# Altium integrated library NSC Switcher.IntLib: 2027 symbols (part 23 of 54)
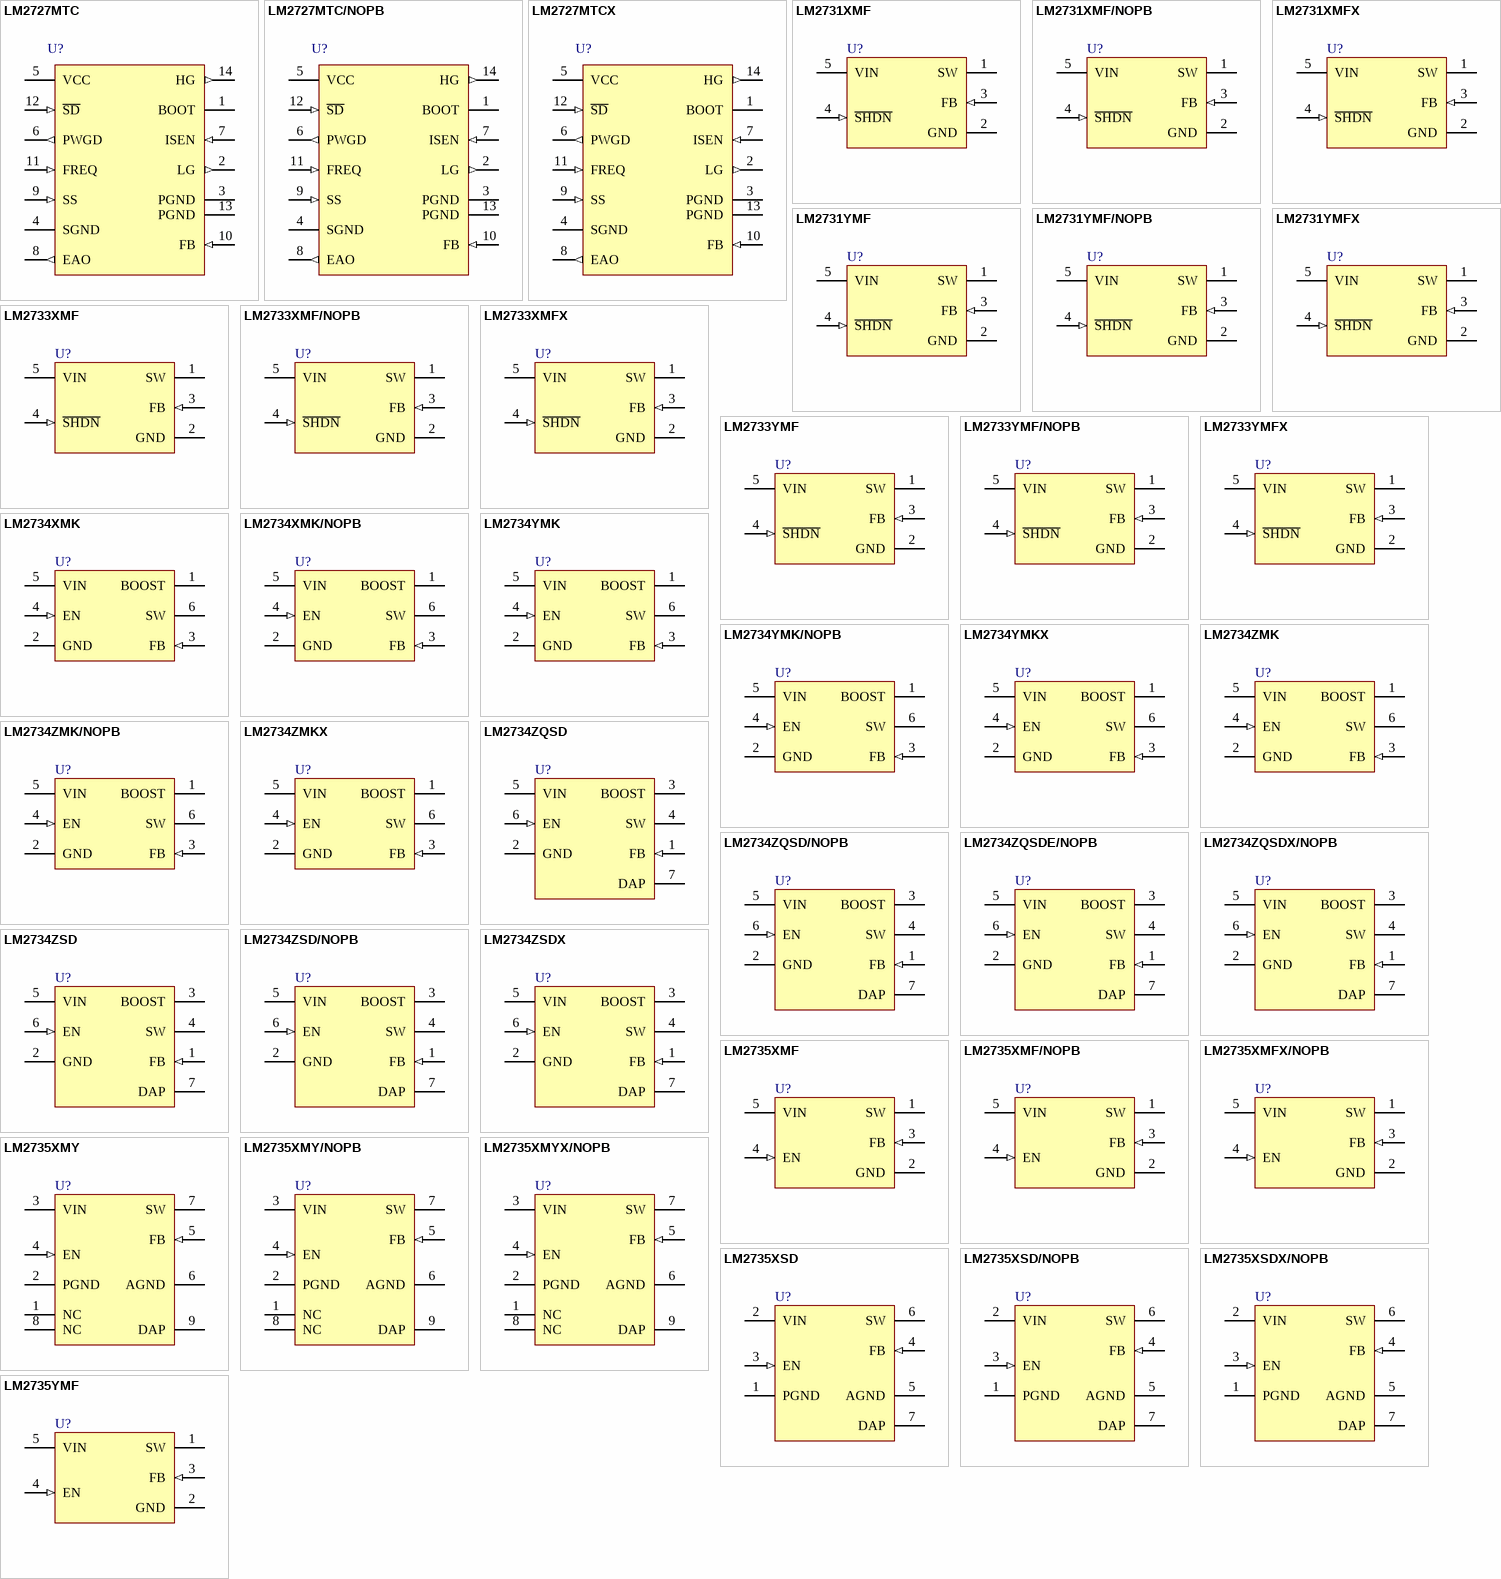
[diagram p85: symbols LM2727MTC to LM2735YMF]

## LM2731XMF
designator U?
0.6/1.6 MHz Boost Converters With 22V Internal FET Switch, 5-pin SOT-23; PartNumber: LM2731XMF; Manufacturer: National Semiconductor; PackageTopMarking: S51A*XTT; PowerWise: N; CompType: Switcher; Published: 4-Dec-2008; DatasheetVersion: Jul-2007; PackageVersion: revD, Aug-2008; PackageReference: MF05A; Publisher: Altium Limited; PackageDescription: Molded SOT-23, .115 x .063 x .040 in Body, 5 Lead, .0375 in Pitch; Supplier 1: Farnell; Supplier Part Number 1: 8181640; Supplier 2: Farnell; Supplier Part Number 2: 8181640RL; RoHS: N; PinCount: 5; ComponentLink1Description: LM2731 Datasheet; ComponentLink1URL: http://www.national.com/ds/LM/LM2731.pdf; ComponentLink2Description: LM2731 Web Page; ComponentLink2URL: http://www.national.com/pf/LM/LM2731.html; ComponentLink3Description: MF05A Package Page; ComponentLink3URL: http://www.national.com/packaging/folders/mf05a.html
footprint MF05A_N (SOT23, 5-Leads, Body 2.9x1.6mm, Pitch 0.95mm, Lead Span 2.8mm, IPC Medium Density)
footprint MF05A_L (SOT23, 5-Leads, Body 2.9x1.6mm, Pitch 0.95mm, Lead Span 2.8mm, IPC High Density)
footprint MF05A_M (SOT23, 5-Leads, Body 2.9x1.6mm, Pitch 0.95mm, Lead Span 2.8mm, IPC Low Density)
pins: 1 SW (power), 2 GND (power), 3 FB (in), 4 ~{SHDN} (in), 5 VIN (power)

## LM2731XMF/NOPB
designator U?
0.6/1.6 MHz Boost Converters With 22V Internal FET Switch in 5-pin SOT-23, Pb-Free; PartNumber: LM2731XMF/NOPB; Manufacturer: National Semiconductor; PackageTopMarking: S51A*XTT; PowerWise: N; CompType: Switcher; Published: 1-Mar-2010; DatasheetVersion: Jul-2007; PackageVersion: revD, Aug-2008; PackageReference: MF05A; Publisher: Altium Limited; PackageDescription: Molded SOT-23, .115 x .063 x .040 in Body, 5 Lead, .0375 in Pitch; Supplier 1: Digi-Key; Supplier Part Number 1: LM2731XMFTR-ND; Supplier 2: Digi-Key; Supplier Part Number 2: LM2731XMFCT-ND; Supplier 3: Digi-Key; Supplier Part Number 3: LM2731XMFDKR-ND; Supplier 4: Farnell; Supplier Part Number 4: 1675270; RoHS: Y; PinCount: 5; ComponentLink1Description: LM2731 Datasheet; ComponentLink1URL: http://www.national.com/ds/LM/LM2731.pdf; ComponentLink2Description: LM2731 Web Page; ComponentLink2URL: http://www.national.com/pf/LM/LM2731.html; ComponentLink3Description: MF05A Package Page; ComponentLink3URL: http://www.national.com/packaging/folders/mf05a.html
footprint MF05A_N (SOT23, 5-Leads, Body 2.9x1.6mm, Pitch 0.95mm, Lead Span 2.8mm, IPC Medium Density)
footprint MF05A_L (SOT23, 5-Leads, Body 2.9x1.6mm, Pitch 0.95mm, Lead Span 2.8mm, IPC High Density)
footprint MF05A_M (SOT23, 5-Leads, Body 2.9x1.6mm, Pitch 0.95mm, Lead Span 2.8mm, IPC Low Density)
pins: 1 SW (power), 2 GND (power), 3 FB (in), 4 ~{SHDN} (in), 5 VIN (power)

## LM2731XMFX
designator U?
0.6/1.6 MHz Boost Converters With 22V Internal FET Switch in 5-pin SOT-23; PartNumber: LM2731XMFX; Manufacturer: National Semiconductor; PackageTopMarking: S51A*XTT; PowerWise: N; CompType: Switcher; Published: 1-Mar-2010; DatasheetVersion: Jul-2007; PackageVersion: revD, Aug-2008; PackageReference: MF05A; Publisher: Altium Limited; PackageDescription: Molded SOT-23, .115 x .063 x .040 in Body, 5 Lead, .0375 in Pitch; RoHS: N; PinCount: 5; ComponentLink1Description: LM2731 Datasheet; ComponentLink1URL: http://www.national.com/ds/LM/LM2731.pdf; ComponentLink2Description: LM2731 Web Page; ComponentLink2URL: http://www.national.com/pf/LM/LM2731.html; ComponentLink3Description: MF05A Package Page; ComponentLink3URL: http://www.national.com/packaging/folders/mf05a.html
footprint MF05A_N (SOT23, 5-Leads, Body 2.9x1.6mm, Pitch 0.95mm, Lead Span 2.8mm, IPC Medium Density)
footprint MF05A_L (SOT23, 5-Leads, Body 2.9x1.6mm, Pitch 0.95mm, Lead Span 2.8mm, IPC High Density)
footprint MF05A_M (SOT23, 5-Leads, Body 2.9x1.6mm, Pitch 0.95mm, Lead Span 2.8mm, IPC Low Density)
pins: 1 SW (power), 2 GND (power), 3 FB (in), 4 ~{SHDN} (in), 5 VIN (power)

## LM2731YMF
designator U?
0.6/1.6 MHz Boost Converters With 22V Internal FET Switch, 5-pin SOT-23; PartNumber: LM2731YMF; Manufacturer: National Semiconductor; PackageTopMarking: S51B*XTT; PowerWise: N; CompType: Switcher; Published: 4-Dec-2008; DatasheetVersion: Jul-2007; PackageVersion: revD, Aug-2008; PackageReference: MF05A; Publisher: Altium Limited; PackageDescription: Molded SOT-23, .115 x .063 x .040 in Body, 5 Lead, .0375 in Pitch; Supplier 1: Farnell; Supplier Part Number 1: 8181659; RoHS: N; PinCount: 5; ComponentLink1Description: LM2731 Datasheet; ComponentLink1URL: http://www.national.com/ds/LM/LM2731.pdf; ComponentLink2Description: LM2731 Web Page; ComponentLink2URL: http://www.national.com/pf/LM/LM2731.html; ComponentLink3Description: MF05A Package Page; ComponentLink3URL: http://www.national.com/packaging/folders/mf05a.html
footprint MF05A_N (SOT23, 5-Leads, Body 2.9x1.6mm, Pitch 0.95mm, Lead Span 2.8mm, IPC Medium Density)
footprint MF05A_L (SOT23, 5-Leads, Body 2.9x1.6mm, Pitch 0.95mm, Lead Span 2.8mm, IPC High Density)
footprint MF05A_M (SOT23, 5-Leads, Body 2.9x1.6mm, Pitch 0.95mm, Lead Span 2.8mm, IPC Low Density)
pins: 1 SW (power), 2 GND (power), 3 FB (in), 4 ~{SHDN} (in), 5 VIN (power)

## LM2731YMF/NOPB
designator U?
0.6/1.6 MHz Boost Converters With 22V Internal FET Switch in 5-pin SOT-23, Pb-Free; PartNumber: LM2731YMF/NOPB; Manufacturer: National Semiconductor; PackageTopMarking: S51B*XTT; PowerWise: N; CompType: Switcher; Published: 1-Mar-2010; DatasheetVersion: Jul-2007; PackageVersion: revD, Aug-2008; PackageReference: MF05A; Publisher: Altium Limited; PackageDescription: Molded SOT-23, .115 x .063 x .040 in Body, 5 Lead, .0375 in Pitch; Supplier 1: Digi-Key; Supplier Part Number 1: LM2731YMFTR-ND; Supplier 2: Digi-Key; Supplier Part Number 2: LM2731YMFCT-ND; Supplier 3: Digi-Key; Supplier Part Number 3: LM2731YMFDKR-ND; Supplier 4: Farnell; Supplier Part Number 4: 1496113; RoHS: Y; PinCount: 5; ComponentLink1Description: LM2731 Datasheet; ComponentLink1URL: http://www.national.com/ds/LM/LM2731.pdf; ComponentLink2Description: LM2731 Web Page; ComponentLink2URL: http://www.national.com/pf/LM/LM2731.html; ComponentLink3Description: MF05A Package Page; ComponentLink3URL: http://www.national.com/packaging/folders/mf05a.html
footprint MF05A_N (SOT23, 5-Leads, Body 2.9x1.6mm, Pitch 0.95mm, Lead Span 2.8mm, IPC Medium Density)
footprint MF05A_L (SOT23, 5-Leads, Body 2.9x1.6mm, Pitch 0.95mm, Lead Span 2.8mm, IPC High Density)
footprint MF05A_M (SOT23, 5-Leads, Body 2.9x1.6mm, Pitch 0.95mm, Lead Span 2.8mm, IPC Low Density)
pins: 1 SW (power), 2 GND (power), 3 FB (in), 4 ~{SHDN} (in), 5 VIN (power)

## LM2731YMFX
designator U?
0.6/1.6 MHz Boost Converters With 22V Internal FET Switch in 5-pin SOT-23; PartNumber: LM2731YMFX; Manufacturer: National Semiconductor; PackageTopMarking: S51B*XTT; PowerWise: N; CompType: Switcher; Published: 1-Mar-2010; DatasheetVersion: Jul-2007; PackageVersion: revD, Aug-2008; PackageReference: MF05A; Publisher: Altium Limited; PackageDescription: Molded SOT-23, .115 x .063 x .040 in Body, 5 Lead, .0375 in Pitch; RoHS: N; PinCount: 5; ComponentLink1Description: LM2731 Datasheet; ComponentLink1URL: http://www.national.com/ds/LM/LM2731.pdf; ComponentLink2Description: LM2731 Web Page; ComponentLink2URL: http://www.national.com/pf/LM/LM2731.html; ComponentLink3Description: MF05A Package Page; ComponentLink3URL: http://www.national.com/packaging/folders/mf05a.html
footprint MF05A_N (SOT23, 5-Leads, Body 2.9x1.6mm, Pitch 0.95mm, Lead Span 2.8mm, IPC Medium Density)
footprint MF05A_L (SOT23, 5-Leads, Body 2.9x1.6mm, Pitch 0.95mm, Lead Span 2.8mm, IPC High Density)
footprint MF05A_M (SOT23, 5-Leads, Body 2.9x1.6mm, Pitch 0.95mm, Lead Span 2.8mm, IPC Low Density)
pins: 1 SW (power), 2 GND (power), 3 FB (in), 4 ~{SHDN} (in), 5 VIN (power)

## LM2733XMF
designator U?
0.6/1.6 MHz Boost Converters With 40V Internal FET Switch, 5-pin SOT-23; PartNumber: LM2733XMF; Manufacturer: National Semiconductor; PackageTopMarking: S52A*XTT; PowerWise: N; CompType: Switcher; Published: 4-Dec-2008; DatasheetVersion: Jul-2007; PackageVersion: revD, Aug-2008; PackageReference: MF05A; Publisher: Altium Limited; PackageDescription: Molded SOT-23, .115 x .063 x .040 in Body, 5 Lead, .0375 in Pitch; Supplier 1: Farnell; Supplier Part Number 1: 8181667; Supplier 2: Farnell; Supplier Part Number 2: 8181667RL; RoHS: N; PinCount: 5; ComponentLink1Description: LM2733 Datasheet; ComponentLink1URL: http://www.national.com/ds/LM/LM2733.pdf; ComponentLink2Description: LM2733 Web Page; ComponentLink2URL: http://www.national.com/pf/LM/LM2733.html; ComponentLink3Description: MF05A Package Page; ComponentLink3URL: http://www.national.com/packaging/folders/mf05a.html
footprint MF05A_N (SOT23, 5-Leads, Body 2.9x1.6mm, Pitch 0.95mm, Lead Span 2.8mm, IPC Medium Density)
footprint MF05A_L (SOT23, 5-Leads, Body 2.9x1.6mm, Pitch 0.95mm, Lead Span 2.8mm, IPC High Density)
footprint MF05A_M (SOT23, 5-Leads, Body 2.9x1.6mm, Pitch 0.95mm, Lead Span 2.8mm, IPC Low Density)
pins: 1 SW (power), 2 GND (power), 3 FB (in), 4 ~{SHDN} (in), 5 VIN (power)

## LM2733XMF/NOPB
designator U?
0.6/1.6 MHz Boost Converters With 40V Internal FET Switch in 5-pin SOT-23, Pb-Free; PartNumber: LM2733XMF/NOPB; Manufacturer: National Semiconductor; PackageTopMarking: S52A*XTT; PowerWise: N; CompType: Switcher; Published: 1-Mar-2010; DatasheetVersion: Jul-2007; PackageVersion: revD, Aug-2008; PackageReference: MF05A; Publisher: Altium Limited; PackageDescription: Molded SOT-23, .115 x .063 x .040 in Body, 5 Lead, .0375 in Pitch; Supplier 1: Digi-Key; Supplier Part Number 1: LM2733XMFTR-ND; Supplier 2: Digi-Key; Supplier Part Number 2: LM2733XMFCT-ND; Supplier 3: Digi-Key; Supplier Part Number 3: LM2733XMFDKR-ND; Supplier 4: Farnell; Supplier Part Number 4: 1496114; RoHS: Y; PinCount: 5; ComponentLink1Description: LM2733 Datasheet; ComponentLink1URL: http://www.national.com/ds/LM/LM2733.pdf; ComponentLink2Description: LM2733 Web Page; ComponentLink2URL: http://www.national.com/pf/LM/LM2733.html; ComponentLink3Description: MF05A Package Page; ComponentLink3URL: http://www.national.com/packaging/folders/mf05a.html
footprint MF05A_N (SOT23, 5-Leads, Body 2.9x1.6mm, Pitch 0.95mm, Lead Span 2.8mm, IPC Medium Density)
footprint MF05A_L (SOT23, 5-Leads, Body 2.9x1.6mm, Pitch 0.95mm, Lead Span 2.8mm, IPC High Density)
footprint MF05A_M (SOT23, 5-Leads, Body 2.9x1.6mm, Pitch 0.95mm, Lead Span 2.8mm, IPC Low Density)
pins: 1 SW (power), 2 GND (power), 3 FB (in), 4 ~{SHDN} (in), 5 VIN (power)

## LM2733XMFX
designator U?
0.6/1.6 MHz Boost Converters With 40V Internal FET Switch in 5-pin SOT-23; PartNumber: LM2733XMFX; Manufacturer: National Semiconductor; PackageTopMarking: S52A*XTT; PowerWise: N; CompType: Switcher; Published: 1-Mar-2010; DatasheetVersion: Jul-2007; PackageVersion: revD, Aug-2008; PackageReference: MF05A; Publisher: Altium Limited; PackageDescription: Molded SOT-23, .115 x .063 x .040 in Body, 5 Lead, .0375 in Pitch; RoHS: N; PinCount: 5; ComponentLink1Description: LM2733 Datasheet; ComponentLink1URL: http://www.national.com/ds/LM/LM2733.pdf; ComponentLink2Description: LM2733 Web Page; ComponentLink2URL: http://www.national.com/pf/LM/LM2733.html; ComponentLink3Description: MF05A Package Page; ComponentLink3URL: http://www.national.com/packaging/folders/mf05a.html
footprint MF05A_N (SOT23, 5-Leads, Body 2.9x1.6mm, Pitch 0.95mm, Lead Span 2.8mm, IPC Medium Density)
footprint MF05A_L (SOT23, 5-Leads, Body 2.9x1.6mm, Pitch 0.95mm, Lead Span 2.8mm, IPC High Density)
footprint MF05A_M (SOT23, 5-Leads, Body 2.9x1.6mm, Pitch 0.95mm, Lead Span 2.8mm, IPC Low Density)
pins: 1 SW (power), 2 GND (power), 3 FB (in), 4 ~{SHDN} (in), 5 VIN (power)

## LM2733YMF
designator U?
0.6/1.6 MHz Boost Converters With 40V Internal FET Switch, 5-pin SOT-23; PartNumber: LM2733YMF; Manufacturer: National Semiconductor; PackageTopMarking: S52B*XTT; PowerWise: N; CompType: Switcher; Published: 4-Dec-2008; DatasheetVersion: Jul-2007; PackageVersion: revD, Aug-2008; PackageReference: MF05A; Publisher: Altium Limited; PackageDescription: Molded SOT-23, .115 x .063 x .040 in Body, 5 Lead, .0375 in Pitch; Supplier 1: Farnell; Supplier Part Number 1: 8181675RL; Supplier 2: Farnell; Supplier Part Number 2: 8181675; RoHS: N; PinCount: 5; ComponentLink1Description: LM2733 Datasheet; ComponentLink1URL: http://www.national.com/ds/LM/LM2733.pdf; ComponentLink2Description: LM2733 Web Page; ComponentLink2URL: http://www.national.com/pf/LM/LM2733.html; ComponentLink3Description: MF05A Package Page; ComponentLink3URL: http://www.national.com/packaging/folders/mf05a.html
footprint MF05A_N (SOT23, 5-Leads, Body 2.9x1.6mm, Pitch 0.95mm, Lead Span 2.8mm, IPC Medium Density)
footprint MF05A_L (SOT23, 5-Leads, Body 2.9x1.6mm, Pitch 0.95mm, Lead Span 2.8mm, IPC High Density)
footprint MF05A_M (SOT23, 5-Leads, Body 2.9x1.6mm, Pitch 0.95mm, Lead Span 2.8mm, IPC Low Density)
pins: 1 SW (power), 2 GND (power), 3 FB (in), 4 ~{SHDN} (in), 5 VIN (power)

## LM2733YMF/NOPB
designator U?
0.6/1.6 MHz Boost Converters With 40V Internal FET Switch in 5-pin SOT-23, Pb-Free; PartNumber: LM2733YMF/NOPB; Manufacturer: National Semiconductor; PackageTopMarking: S52B*XTT; PowerWise: N; CompType: Switcher; Published: 1-Mar-2010; DatasheetVersion: Jul-2007; PackageVersion: revD, Aug-2008; PackageReference: MF05A; Publisher: Altium Limited; PackageDescription: Molded SOT-23, .115 x .063 x .040 in Body, 5 Lead, .0375 in Pitch; Supplier 1: Digi-Key; Supplier Part Number 1: LM2733YMFTR-ND; Supplier 2: Digi-Key; Supplier Part Number 2: LM2733YMFCT-ND; Supplier 3: Digi-Key; Supplier Part Number 3: LM2733YMFDKR-ND; Supplier 4: Farnell; Supplier Part Number 4: 1496115; RoHS: Y; PinCount: 5; ComponentLink1Description: LM2733 Datasheet; ComponentLink1URL: http://www.national.com/ds/LM/LM2733.pdf; ComponentLink2Description: LM2733 Web Page; ComponentLink2URL: http://www.national.com/pf/LM/LM2733.html; ComponentLink3Description: MF05A Package Page; ComponentLink3URL: http://www.national.com/packaging/folders/mf05a.html
footprint MF05A_N (SOT23, 5-Leads, Body 2.9x1.6mm, Pitch 0.95mm, Lead Span 2.8mm, IPC Medium Density)
footprint MF05A_L (SOT23, 5-Leads, Body 2.9x1.6mm, Pitch 0.95mm, Lead Span 2.8mm, IPC High Density)
footprint MF05A_M (SOT23, 5-Leads, Body 2.9x1.6mm, Pitch 0.95mm, Lead Span 2.8mm, IPC Low Density)
pins: 1 SW (power), 2 GND (power), 3 FB (in), 4 ~{SHDN} (in), 5 VIN (power)

## LM2733YMFX
designator U?
0.6/1.6 MHz Boost Converters With 40V Internal FET Switch in 5-pin SOT-23; PartNumber: LM2733YMFX; Manufacturer: National Semiconductor; PackageTopMarking: S52B*XTT; PowerWise: N; CompType: Switcher; Published: 1-Mar-2010; DatasheetVersion: Jul-2007; PackageVersion: revD, Aug-2008; PackageReference: MF05A; Publisher: Altium Limited; PackageDescription: Molded SOT-23, .115 x .063 x .040 in Body, 5 Lead, .0375 in Pitch; RoHS: N; PinCount: 5; ComponentLink1Description: LM2733 Datasheet; ComponentLink1URL: http://www.national.com/ds/LM/LM2733.pdf; ComponentLink2Description: LM2733 Web Page; ComponentLink2URL: http://www.national.com/pf/LM/LM2733.html; ComponentLink3Description: MF05A Package Page; ComponentLink3URL: http://www.national.com/packaging/folders/mf05a.html
footprint MF05A_N (SOT23, 5-Leads, Body 2.9x1.6mm, Pitch 0.95mm, Lead Span 2.8mm, IPC Medium Density)
footprint MF05A_L (SOT23, 5-Leads, Body 2.9x1.6mm, Pitch 0.95mm, Lead Span 2.8mm, IPC High Density)
footprint MF05A_M (SOT23, 5-Leads, Body 2.9x1.6mm, Pitch 0.95mm, Lead Span 2.8mm, IPC Low Density)
pins: 1 SW (power), 2 GND (power), 3 FB (in), 4 ~{SHDN} (in), 5 VIN (power)

## LM2734XMK
designator U?
1A Load Step-Down DC-DC Regulator, 6-pin Tiny SOT23; PartNumber: LM2734XMK; Manufacturer: National Semiconductor; PackageTopMarking: SFDB*XTT; PowerWise: N; CompType: Switcher; Published: 4-Dec-2008; DatasheetVersion: Apr-2009; PackageVersion: revE, Nov-2008; PackageReference: MK06A; Publisher: Altium Limited; PackageDescription: Molded TSOT, 2.97 x 1.65 x 0.87mm Body, 6 Lead, 0.95mm Pitch; RoHS: Y; PinCount: 6; Code_JEDEC: MO-193-AA; Code_IPC: SOT26A-6; ComponentLink1Description: LM2734 Datasheet; ComponentLink1URL: http://www.national.com/ds/LM/LM2734.pdf; ComponentLink2Description: LM2734 Web Page; ComponentLink2URL: http://www.national.com/pf/LM/LM2734.html; ComponentLink3Description: MK06A Package Page; ComponentLink3URL: http://www.national.com/packaging/folders/mk06a.html
footprint MK06A_N (SOT23, 6-Leads, Body 3.0x1.7mm, Pitch 0.95mm, Lead Span 2.9mm, IPC Medium Density)
footprint MK06A_L (SOT23, 6-Leads, Body 3.0x1.7mm, Pitch 0.95mm, Lead Span 2.9mm, IPC High Density)
footprint MK06A_M (SOT23, 6-Leads, Body 3.0x1.7mm, Pitch 0.95mm, Lead Span 2.9mm, IPC Low Density)
pins: 1 BOOST, 2 GND (power), 3 FB (in), 4 EN (in), 5 VIN (power), 6 SW (power)

## LM2734XMK/NOPB
designator U?
1A Load Step-Down DC-DC Regulator, 6-pin Tiny SOT23, Pb-Free; PartNumber: LM2734XMK/NOPB; Manufacturer: National Semiconductor; PackageTopMarking: SFDB*XTT; PowerWise: N; CompType: Switcher; Published: 1-Mar-2010; DatasheetVersion: Apr-2009; PackageVersion: revE, Nov-2008; PackageReference: MK06A; Publisher: Altium Limited; PackageDescription: Molded TSOT, 2.97 x 1.65 x 0.87mm Body, 6 Lead, 0.95mm Pitch; Supplier 1: Digi-Key; Supplier Part Number 1: LM2734XMKTR-ND; Supplier 2: Digi-Key; Supplier Part Number 2: LM2734XMKCT-ND; Supplier 3: Digi-Key; Supplier Part Number 3: LM2734XMKDKR-ND; Supplier 4: Farnell; Supplier Part Number 4: 1652388; RoHS: Y; PinCount: 6; Code_JEDEC: MO-193-AA; Code_IPC: SOT26A-6; ComponentLink1Description: LM2734 Datasheet; ComponentLink1URL: http://www.national.com/ds/LM/LM2734.pdf; ComponentLink2Description: LM2734 Web Page; ComponentLink2URL: http://www.national.com/pf/LM/LM2734.html; ComponentLink3Description: MK06A Package Page; ComponentLink3URL: http://www.national.com/packaging/folders/mk06a.html
footprint MK06A_N (SOT23, 6-Leads, Body 3.0x1.7mm, Pitch 0.95mm, Lead Span 2.9mm, IPC Medium Density)
footprint MK06A_L (SOT23, 6-Leads, Body 3.0x1.7mm, Pitch 0.95mm, Lead Span 2.9mm, IPC High Density)
footprint MK06A_M (SOT23, 6-Leads, Body 3.0x1.7mm, Pitch 0.95mm, Lead Span 2.9mm, IPC Low Density)
pins: 1 BOOST, 2 GND (power), 3 FB (in), 4 EN (in), 5 VIN (power), 6 SW (power)

## LM2734YMK
designator U?
1A Load Step-Down DC-DC Regulator, 6-pin Tiny SOT23; PartNumber: LM2734YMK; Manufacturer: National Semiconductor; PackageTopMarking: SFEB*XTT; PowerWise: N; CompType: Switcher; Published: 4-Dec-2008; DatasheetVersion: Apr-2009; PackageVersion: revE, Nov-2008; PackageReference: MK06A; Publisher: Altium Limited; PackageDescription: Molded TSOT, 2.97 x 1.65 x 0.87mm Body, 6 Lead, 0.95mm Pitch; Supplier 1: Farnell; Supplier Part Number 1: 1312553; RoHS: N; PinCount: 6; Code_JEDEC: MO-193-AA; Code_IPC: SOT26A-6; ComponentLink1Description: LM2734 Datasheet; ComponentLink1URL: http://www.national.com/ds/LM/LM2734.pdf; ComponentLink2Description: LM2734 Web Page; ComponentLink2URL: http://www.national.com/pf/LM/LM2734.html; ComponentLink3Description: MK06A Package Page; ComponentLink3URL: http://www.national.com/packaging/folders/mk06a.html
footprint MK06A_N (SOT23, 6-Leads, Body 3.0x1.7mm, Pitch 0.95mm, Lead Span 2.9mm, IPC Medium Density)
footprint MK06A_L (SOT23, 6-Leads, Body 3.0x1.7mm, Pitch 0.95mm, Lead Span 2.9mm, IPC High Density)
footprint MK06A_M (SOT23, 6-Leads, Body 3.0x1.7mm, Pitch 0.95mm, Lead Span 2.9mm, IPC Low Density)
pins: 1 BOOST, 2 GND (power), 3 FB (in), 4 EN (in), 5 VIN (power), 6 SW (power)

## LM2734YMK/NOPB
designator U?
1A Load Step-Down DC-DC Regulator, 6-pin Tiny SOT23, Pb-Free; PartNumber: LM2734YMK/NOPB; Manufacturer: National Semiconductor; PackageTopMarking: SFEB*XTT; PowerWise: N; CompType: Switcher; Published: 1-Mar-2010; DatasheetVersion: Apr-2009; PackageVersion: revE, Nov-2008; PackageReference: MK06A; Publisher: Altium Limited; PackageDescription: Molded TSOT, 2.97 x 1.65 x 0.87mm Body, 6 Lead, 0.95mm Pitch; Supplier 1: Digi-Key; Supplier Part Number 1: LM2734YMKTR-ND; Supplier 2: Digi-Key; Supplier Part Number 2: LM2734YMKCT-ND; Supplier 3: Digi-Key; Supplier Part Number 3: LM2734YMKDKR-ND; Supplier 4: Farnell; Supplier Part Number 4: 1496118; RoHS: Y; PinCount: 6; Code_JEDEC: MO-193-AA; Code_IPC: SOT26A-6; ComponentLink1Description: LM2734 Datasheet; ComponentLink1URL: http://www.national.com/ds/LM/LM2734.pdf; ComponentLink2Description: LM2734 Web Page; ComponentLink2URL: http://www.national.com/pf/LM/LM2734.html; ComponentLink3Description: MK06A Package Page; ComponentLink3URL: http://www.national.com/packaging/folders/mk06a.html
footprint MK06A_N (SOT23, 6-Leads, Body 3.0x1.7mm, Pitch 0.95mm, Lead Span 2.9mm, IPC Medium Density)
footprint MK06A_L (SOT23, 6-Leads, Body 3.0x1.7mm, Pitch 0.95mm, Lead Span 2.9mm, IPC High Density)
footprint MK06A_M (SOT23, 6-Leads, Body 3.0x1.7mm, Pitch 0.95mm, Lead Span 2.9mm, IPC Low Density)
pins: 1 BOOST, 2 GND (power), 3 FB (in), 4 EN (in), 5 VIN (power), 6 SW (power)

## LM2734YMKX
designator U?
1A Load Step-Down DC-DC Regulator, 6-pin Tiny SOT23; PartNumber: LM2734YMKX; Manufacturer: National Semiconductor; PackageTopMarking: SFEB*XTT; PowerWise: N; CompType: Switcher; Published: 1-Mar-2010; DatasheetVersion: Apr-2009; PackageVersion: revE, Nov-2008; PackageReference: MK06A; Publisher: Altium Limited; PackageDescription: Molded TSOT, 2.97 x 1.65 x 0.87mm Body, 6 Lead, 0.95mm Pitch; RoHS: N; PinCount: 6; Code_JEDEC: MO-193-AA; Code_IPC: SOT26A-6; ComponentLink1Description: LM2734 Datasheet; ComponentLink1URL: http://www.national.com/ds/LM/LM2734.pdf; ComponentLink2Description: LM2734 Web Page; ComponentLink2URL: http://www.national.com/pf/LM/LM2734.html; ComponentLink3Description: MK06A Package Page; ComponentLink3URL: http://www.national.com/packaging/folders/mk06a.html
footprint MK06A_N (SOT23, 6-Leads, Body 3.0x1.7mm, Pitch 0.95mm, Lead Span 2.9mm, IPC Medium Density)
footprint MK06A_L (SOT23, 6-Leads, Body 3.0x1.7mm, Pitch 0.95mm, Lead Span 2.9mm, IPC High Density)
footprint MK06A_M (SOT23, 6-Leads, Body 3.0x1.7mm, Pitch 0.95mm, Lead Span 2.9mm, IPC Low Density)
pins: 1 BOOST, 2 GND (power), 3 FB (in), 4 EN (in), 5 VIN (power), 6 SW (power)

## LM2734ZMK
designator U?
1A Load Step-Down DC-DC Regulator, 6-pin Tiny SOT23; PartNumber: LM2734ZMK; Manufacturer: National Semiconductor; PackageTopMarking: SFTB*XTT; PowerWise: N; CompType: Switcher; Published: 4-Dec-2008; DatasheetVersion: Jun-2008; PackageVersion: revE, Nov-2008; PackageReference: MK06A; Publisher: Altium Limited; PackageDescription: Molded TSOT, 2.97 x 1.65 x 0.87mm Body, 6 Lead, 0.95mm Pitch; RoHS: N; PinCount: 6; Code_JEDEC: MO-193-AA; Code_IPC: SOT26A-6; ComponentLink1Description: LM2734Z Datasheet; ComponentLink1URL: http://www.national.com/ds/LM/LM2734Z.pdf; ComponentLink2Description: LM2734Z Web Page; ComponentLink2URL: http://www.national.com/pf/LM/LM2734Z.html; ComponentLink3Description: MK06A Package Page; ComponentLink3URL: http://www.national.com/packaging/folders/mk06a.html
footprint MK06A_N (SOT23, 6-Leads, Body 3.0x1.7mm, Pitch 0.95mm, Lead Span 2.9mm, IPC Medium Density)
footprint MK06A_L (SOT23, 6-Leads, Body 3.0x1.7mm, Pitch 0.95mm, Lead Span 2.9mm, IPC High Density)
footprint MK06A_M (SOT23, 6-Leads, Body 3.0x1.7mm, Pitch 0.95mm, Lead Span 2.9mm, IPC Low Density)
pins: 1 BOOST, 2 GND (power), 3 FB (in), 4 EN (in), 5 VIN (power), 6 SW (power)

## LM2734ZMK/NOPB
designator U?
1A Load Step-Down DC-DC Regulator, 6-pin Tiny SOT23, Pb-Free; PartNumber: LM2734ZMK/NOPB; Manufacturer: National Semiconductor; PackageTopMarking: SFTB*XTT; PowerWise: N; CompType: Switcher; Published: 1-Mar-2010; DatasheetVersion: Jun-2008; PackageVersion: revE, Nov-2008; PackageReference: MK06A; Publisher: Altium Limited; PackageDescription: Molded TSOT, 2.97 x 1.65 x 0.87mm Body, 6 Lead, 0.95mm Pitch; Supplier 1: Digi-Key; Supplier Part Number 1: LM2734ZMKTR-ND; Supplier 2: Digi-Key; Supplier Part Number 2: LM2734ZMKCT-ND; Supplier 3: Digi-Key; Supplier Part Number 3: LM2734ZMKDKR-ND; Supplier 4: Farnell; Supplier Part Number 4: 1559416; RoHS: Y; PinCount: 6; Code_JEDEC: MO-193-AA; Code_IPC: SOT26A-6; ComponentLink1Description: LM2734Z Datasheet; ComponentLink1URL: http://www.national.com/ds/LM/LM2734Z.pdf; ComponentLink2Description: LM2734Z Web Page; ComponentLink2URL: http://www.national.com/pf/LM/LM2734Z.html; ComponentLink3Description: MK06A Package Page; ComponentLink3URL: http://www.national.com/packaging/folders/mk06a.html
footprint MK06A_N (SOT23, 6-Leads, Body 3.0x1.7mm, Pitch 0.95mm, Lead Span 2.9mm, IPC Medium Density)
footprint MK06A_L (SOT23, 6-Leads, Body 3.0x1.7mm, Pitch 0.95mm, Lead Span 2.9mm, IPC High Density)
footprint MK06A_M (SOT23, 6-Leads, Body 3.0x1.7mm, Pitch 0.95mm, Lead Span 2.9mm, IPC Low Density)
pins: 1 BOOST, 2 GND (power), 3 FB (in), 4 EN (in), 5 VIN (power), 6 SW (power)

## LM2734ZMKX
designator U?
1A Load Step-Down DC-DC Regulator, 6-pin Tiny SOT23; PartNumber: LM2734ZMKX; Manufacturer: National Semiconductor; PackageTopMarking: SFTB*XTT; PowerWise: N; CompType: Switcher; Published: 1-Mar-2010; DatasheetVersion: Jun-2008; PackageVersion: revE, Nov-2008; PackageReference: MK06A; Publisher: Altium Limited; PackageDescription: Molded TSOT, 2.97 x 1.65 x 0.87mm Body, 6 Lead, 0.95mm Pitch; RoHS: N; PinCount: 6; Code_JEDEC: MO-193-AA; Code_IPC: SOT26A-6; ComponentLink1Description: LM2734Z Datasheet; ComponentLink1URL: http://www.national.com/ds/LM/LM2734Z.pdf; ComponentLink2Description: LM2734Z Web Page; ComponentLink2URL: http://www.national.com/pf/LM/LM2734Z.html; ComponentLink3Description: MK06A Package Page; ComponentLink3URL: http://www.national.com/packaging/folders/mk06a.html
footprint MK06A_N (SOT23, 6-Leads, Body 3.0x1.7mm, Pitch 0.95mm, Lead Span 2.9mm, IPC Medium Density)
footprint MK06A_L (SOT23, 6-Leads, Body 3.0x1.7mm, Pitch 0.95mm, Lead Span 2.9mm, IPC High Density)
footprint MK06A_M (SOT23, 6-Leads, Body 3.0x1.7mm, Pitch 0.95mm, Lead Span 2.9mm, IPC Low Density)
pins: 1 BOOST, 2 GND (power), 3 FB (in), 4 EN (in), 5 VIN (power), 6 SW (power)

## LM2734ZQSD
designator U?
1A Load Step-Down DC-DC Regulator, 6-pin LLP; PartNumber: LM2734ZQSD; Manufacturer: National Semiconductor; PackageTopMarking: ZXYTT*L238B; PowerWise: N; CompType: Switcher; Published: 4-Dec-2008; DatasheetVersion: Jun-2008; PackageVersion: revA, Jul-2003; PackageReference: SDE06A; Publisher: Altium Limited; PackageDescription: LLP, Plastic, Dual, 3 x 3 x 0.8mm Body, 6 Lead, 0.95mm Pitch, No Pullback; RoHS: Y; PinCount: 6; ComponentLink1Description: LM2734Z Datasheet; ComponentLink1URL: http://www.national.com/ds/LM/LM2734Z.pdf; ComponentLink2Description: LM2734Z Web Page; ComponentLink2URL: http://www.national.com/pf/LM/LM2734Z.html; ComponentLink3Description: SDE06A Package Page; ComponentLink3URL: http://www.national.com/packaging/folders/sde06a.html
footprint SDE06A_full (SON, 6-Leads, Body 3x3 mm, Pitch 0.95mm, Full Paste, NSC Recommended)
footprint SDE06A_quad (SON, 6-Leads, Body 3x3 mm, Pitch 0.95mm, Quad Paste, NSC Recommended)
pins: 1 FB (in), 2 GND (power), 3 BOOST, 4 SW (power), 5 VIN (power), 6 EN (in), 7 DAP (power)

## LM2734ZQSD/NOPB
designator U?
1A Load Step-Down DC-DC Regulator, 6-pin LLP, Pb-Free; PartNumber: LM2734ZQSD/NOPB; Manufacturer: National Semiconductor; PackageTopMarking: ZXYTT*L238B; PowerWise: N; CompType: Switcher; Published: 1-Mar-2010; DatasheetVersion: Jun-2008; PackageVersion: revA, Jul-2003; PackageReference: SDE06A; Publisher: Altium Limited; PackageDescription: LLP, Plastic, Dual, 3 x 3 x 0.8mm Body, 6 Lead, 0.95mm Pitch, No Pullback; Supplier 1: Digi-Key; Supplier Part Number 1: LM2734ZQSD-ND; RoHS: Y; PinCount: 6; ComponentLink1Description: LM2734Z Datasheet; ComponentLink1URL: http://www.national.com/ds/LM/LM2734Z.pdf; ComponentLink2Description: LM2734Z Web Page; ComponentLink2URL: http://www.national.com/pf/LM/LM2734Z.html; ComponentLink3Description: SDE06A Package Page; ComponentLink3URL: http://www.national.com/packaging/folders/sde06a.html
footprint SDE06A_full (SON, 6-Leads, Body 3x3 mm, Pitch 0.95mm, Full Paste, NSC Recommended)
footprint SDE06A_quad (SON, 6-Leads, Body 3x3 mm, Pitch 0.95mm, Quad Paste, NSC Recommended)
pins: 1 FB (in), 2 GND (power), 3 BOOST, 4 SW (power), 5 VIN (power), 6 EN (in), 7 DAP (power)

## LM2734ZQSDE/NOPB
designator U?
1A Load Step-Down DC-DC Regulator, 6-pin LLP, Pb-Free; PartNumber: LM2734ZQSDE/NOPB; Manufacturer: National Semiconductor; PackageTopMarking: ZXYTT*L238B; PowerWise: N; CompType: Switcher; Published: 1-Mar-2010; DatasheetVersion: Jun-2008; PackageVersion: revA, Jul-2003; PackageReference: SDE06A; Publisher: Altium Limited; PackageDescription: LLP, Plastic, Dual, 3 x 3 x 0.8mm Body, 6 Lead, 0.95mm Pitch, No Pullback; Supplier 1: Digi-Key; Supplier Part Number 1: LM2734ZQSDETR-ND; Supplier 2: Digi-Key; Supplier Part Number 2: LM2734ZQSDECT-ND; Supplier 3: Digi-Key; Supplier Part Number 3: LM2734ZQSDEDKR-ND; RoHS: Y; PinCount: 6; ComponentLink1Description: LM2734Z Datasheet; ComponentLink1URL: http://www.national.com/ds/LM/LM2734Z.pdf; ComponentLink2Description: LM2734Z Web Page; ComponentLink2URL: http://www.national.com/pf/LM/LM2734Z.html; ComponentLink3Description: SDE06A Package Page; ComponentLink3URL: http://www.national.com/packaging/folders/sde06a.html
footprint SDE06A_full (SON, 6-Leads, Body 3x3 mm, Pitch 0.95mm, Full Paste, NSC Recommended)
footprint SDE06A_quad (SON, 6-Leads, Body 3x3 mm, Pitch 0.95mm, Quad Paste, NSC Recommended)
pins: 1 FB (in), 2 GND (power), 3 BOOST, 4 SW (power), 5 VIN (power), 6 EN (in), 7 DAP (power)

## LM2734ZQSDX/NOPB
designator U?
1A Load Step-Down DC-DC Regulator, 6-pin LLP, Pb-Free; PartNumber: LM2734ZQSDX/NOPB; Manufacturer: National Semiconductor; PackageTopMarking: ZXYTT*L238B; PowerWise: N; CompType: Switcher; Published: 1-Mar-2010; DatasheetVersion: Jun-2008; PackageVersion: revA, Jul-2003; PackageReference: SDE06A; Publisher: Altium Limited; PackageDescription: LLP, Plastic, Dual, 3 x 3 x 0.8mm Body, 6 Lead, 0.95mm Pitch, No Pullback; Supplier 1: Digi-Key; Supplier Part Number 1: LM2734ZQSDX-ND; RoHS: Y; PinCount: 6; ComponentLink1Description: LM2734Z Datasheet; ComponentLink1URL: http://www.national.com/ds/LM/LM2734Z.pdf; ComponentLink2Description: LM2734Z Web Page; ComponentLink2URL: http://www.national.com/pf/LM/LM2734Z.html; ComponentLink3Description: SDE06A Package Page; ComponentLink3URL: http://www.national.com/packaging/folders/sde06a.html
footprint SDE06A_full (SON, 6-Leads, Body 3x3 mm, Pitch 0.95mm, Full Paste, NSC Recommended)
footprint SDE06A_quad (SON, 6-Leads, Body 3x3 mm, Pitch 0.95mm, Quad Paste, NSC Recommended)
pins: 1 FB (in), 2 GND (power), 3 BOOST, 4 SW (power), 5 VIN (power), 6 EN (in), 7 DAP (power)

## LM2734ZSD
designator U?
1A Load Step-Down DC-DC Regulator, 6-pin LLP; PartNumber: LM2734ZSD; Manufacturer: National Semiconductor; PackageTopMarking: ZXYTT*L163B; PowerWise: N; CompType: Switcher; Published: 4-Dec-2008; DatasheetVersion: Jun-2008; PackageVersion: revA, Jul-2003; PackageReference: SDE06A; Publisher: Altium Limited; PackageDescription: LLP, Plastic, Dual, 3 x 3 x 0.8mm Body, 6 Lead, 0.95mm Pitch, No Pullback; RoHS: N; PinCount: 6; ComponentLink1Description: LM2734Z Datasheet; ComponentLink1URL: http://www.national.com/ds/LM/LM2734Z.pdf; ComponentLink2Description: LM2734Z Web Page; ComponentLink2URL: http://www.national.com/pf/LM/LM2734Z.html; ComponentLink3Description: SDE06A Package Page; ComponentLink3URL: http://www.national.com/packaging/folders/sde06a.html
footprint SDE06A_full (SON, 6-Leads, Body 3x3 mm, Pitch 0.95mm, Full Paste, NSC Recommended)
footprint SDE06A_quad (SON, 6-Leads, Body 3x3 mm, Pitch 0.95mm, Quad Paste, NSC Recommended)
pins: 1 FB (in), 2 GND (power), 3 BOOST, 4 SW (power), 5 VIN (power), 6 EN (in), 7 DAP (power)

## LM2734ZSD/NOPB
designator U?
1A Load Step-Down DC-DC Regulator, 6-pin LLP, Pb-Free; PartNumber: LM2734ZSD/NOPB; Manufacturer: National Semiconductor; PackageTopMarking: ZXYTT*L163B; PowerWise: N; CompType: Switcher; Published: 1-Mar-2010; DatasheetVersion: Jun-2008; PackageVersion: revA, Jul-2003; PackageReference: SDE06A; Publisher: Altium Limited; PackageDescription: LLP, Plastic, Dual, 3 x 3 x 0.8mm Body, 6 Lead, 0.95mm Pitch, No Pullback; Supplier 1: Digi-Key; Supplier Part Number 1: LM2734ZSDTR-ND; Supplier 2: Digi-Key; Supplier Part Number 2: LM2734ZSDCT-ND; Supplier 3: Digi-Key; Supplier Part Number 3: LM2734ZSDDKR-ND; Supplier 4: Farnell; Supplier Part Number 4: 1694528; RoHS: Y; PinCount: 6; ComponentLink1Description: LM2734Z Datasheet; ComponentLink1URL: http://www.national.com/ds/LM/LM2734Z.pdf; ComponentLink2Description: LM2734Z Web Page; ComponentLink2URL: http://www.national.com/pf/LM/LM2734Z.html; ComponentLink3Description: SDE06A Package Page; ComponentLink3URL: http://www.national.com/packaging/folders/sde06a.html
footprint SDE06A_full (SON, 6-Leads, Body 3x3 mm, Pitch 0.95mm, Full Paste, NSC Recommended)
footprint SDE06A_quad (SON, 6-Leads, Body 3x3 mm, Pitch 0.95mm, Quad Paste, NSC Recommended)
pins: 1 FB (in), 2 GND (power), 3 BOOST, 4 SW (power), 5 VIN (power), 6 EN (in), 7 DAP (power)

## LM2734ZSDX
designator U?
1A Load Step-Down DC-DC Regulator, 6-pin LLP; PartNumber: LM2734ZSDX; Manufacturer: National Semiconductor; PackageTopMarking: ZXYTT*L163B; PowerWise: N; CompType: Switcher; Published: 1-Mar-2010; DatasheetVersion: Jun-2008; PackageVersion: revA, Jul-2003; PackageReference: SDE06A; Publisher: Altium Limited; PackageDescription: LLP, Plastic, Dual, 3 x 3 x 0.8mm Body, 6 Lead, 0.95mm Pitch, No Pullback; RoHS: N; PinCount: 6; ComponentLink1Description: LM2734Z Datasheet; ComponentLink1URL: http://www.national.com/ds/LM/LM2734Z.pdf; ComponentLink2Description: LM2734Z Web Page; ComponentLink2URL: http://www.national.com/pf/LM/LM2734Z.html; ComponentLink3Description: SDE06A Package Page; ComponentLink3URL: http://www.national.com/packaging/folders/sde06a.html
footprint SDE06A_full (SON, 6-Leads, Body 3x3 mm, Pitch 0.95mm, Full Paste, NSC Recommended)
footprint SDE06A_quad (SON, 6-Leads, Body 3x3 mm, Pitch 0.95mm, Quad Paste, NSC Recommended)
pins: 1 FB (in), 2 GND (power), 3 BOOST, 4 SW (power), 5 VIN (power), 6 EN (in), 7 DAP (power)

## LM2735XMF
designator U?
520kHz/1.6MHz - Space-Efficient Boost and SEPIC DC-DC Regulator, 5-pin SOT-23; PartNumber: LM2735XMF; Manufacturer: National Semiconductor; PackageTopMarking: SLEB*XTT; PowerWise: N; CompType: Switcher; Published: 4-Dec-2008; DatasheetVersion: Feb-2009; PackageVersion: revD, Aug-2008; PackageReference: MF05A; Publisher: Altium Limited; PackageDescription: Molded SOT-23, .115 x .063 x .040 in Body, 5 Lead, .0375 in Pitch; RoHS: Y; PinCount: 5; ComponentLink1Description: LM2735 Datasheet; ComponentLink1URL: http://www.national.com/ds/LM/LM2735.pdf; ComponentLink2Description: LM2735 Web Page; ComponentLink2URL: http://www.national.com/pf/LM/LM2735.html; ComponentLink3Description: MF05A Package Page; ComponentLink3URL: http://www.national.com/packaging/folders/mf05a.html
footprint MF05A_N (SOT23, 5-Leads, Body 2.9x1.6mm, Pitch 0.95mm, Lead Span 2.8mm, IPC Medium Density)
footprint MF05A_L (SOT23, 5-Leads, Body 2.9x1.6mm, Pitch 0.95mm, Lead Span 2.8mm, IPC High Density)
footprint MF05A_M (SOT23, 5-Leads, Body 2.9x1.6mm, Pitch 0.95mm, Lead Span 2.8mm, IPC Low Density)
pins: 1 SW (power), 2 GND (power), 3 FB (in), 4 EN (in), 5 VIN (power)

## LM2735XMF/NOPB
designator U?
520kHz/1.6MHz - Space-Efficient Boost and SEPIC DC-DC Regulator, 5-pin SOT-23, Pb-Free; PartNumber: LM2735XMF/NOPB; Manufacturer: National Semiconductor; PackageTopMarking: SLEB*XTT; PowerWise: N; CompType: Switcher; Published: 1-Mar-2010; DatasheetVersion: Feb-2009; PackageVersion: revD, Aug-2008; PackageReference: MF05A; Publisher: Altium Limited; PackageDescription: Molded SOT-23, .115 x .063 x .040 in Body, 5 Lead, .0375 in Pitch; Supplier 1: Digi-Key; Supplier Part Number 1: LM2735XMFTR-ND; Supplier 2: Digi-Key; Supplier Part Number 2: LM2735XMFCT-ND; Supplier 3: Digi-Key; Supplier Part Number 3: LM2735XMFDKR-ND; Supplier 4: Farnell; Supplier Part Number 4: 1685534; RoHS: Y; PinCount: 5; ComponentLink1Description: LM2735 Datasheet; ComponentLink1URL: http://www.national.com/ds/LM/LM2735.pdf; ComponentLink2Description: LM2735 Web Page; ComponentLink2URL: http://www.national.com/pf/LM/LM2735.html; ComponentLink3Description: MF05A Package Page; ComponentLink3URL: http://www.national.com/packaging/folders/mf05a.html
footprint MF05A_N (SOT23, 5-Leads, Body 2.9x1.6mm, Pitch 0.95mm, Lead Span 2.8mm, IPC Medium Density)
footprint MF05A_L (SOT23, 5-Leads, Body 2.9x1.6mm, Pitch 0.95mm, Lead Span 2.8mm, IPC High Density)
footprint MF05A_M (SOT23, 5-Leads, Body 2.9x1.6mm, Pitch 0.95mm, Lead Span 2.8mm, IPC Low Density)
pins: 1 SW (power), 2 GND (power), 3 FB (in), 4 EN (in), 5 VIN (power)

## LM2735XMFX/NOPB
designator U?
520kHz/1.6MHz - Space-Efficient Boost and SEPIC DC-DC Regulator, 5-pin SOT-23, Pb-Free; PartNumber: LM2735XMFX/NOPB; Manufacturer: National Semiconductor; PackageTopMarking: SLEB*XTT; PowerWise: N; CompType: Switcher; Published: 1-Mar-2010; DatasheetVersion: Feb-2009; PackageVersion: revD, Aug-2008; PackageReference: MF05A; Publisher: Altium Limited; PackageDescription: Molded SOT-23, .115 x .063 x .040 in Body, 5 Lead, .0375 in Pitch; Supplier 1: Digi-Key; Supplier Part Number 1: LM2735XMFX-ND; RoHS: Y; PinCount: 5; ComponentLink1Description: LM2735 Datasheet; ComponentLink1URL: http://www.national.com/ds/LM/LM2735.pdf; ComponentLink2Description: LM2735 Web Page; ComponentLink2URL: http://www.national.com/pf/LM/LM2735.html; ComponentLink3Description: MF05A Package Page; ComponentLink3URL: http://www.national.com/packaging/folders/mf05a.html
footprint MF05A_N (SOT23, 5-Leads, Body 2.9x1.6mm, Pitch 0.95mm, Lead Span 2.8mm, IPC Medium Density)
footprint MF05A_L (SOT23, 5-Leads, Body 2.9x1.6mm, Pitch 0.95mm, Lead Span 2.8mm, IPC High Density)
footprint MF05A_M (SOT23, 5-Leads, Body 2.9x1.6mm, Pitch 0.95mm, Lead Span 2.8mm, IPC Low Density)
pins: 1 SW (power), 2 GND (power), 3 FB (in), 4 EN (in), 5 VIN (power)

## LM2735XMY
designator U?
520kHz/1.6MHz - Space-Efficient Boost and SEPIC DC-DC Regulator, 8-pin eMSOP; PartNumber: LM2735XMY; Manufacturer: National Semiconductor; PackageTopMarking: ZXTT*SRJB; PowerWise: N; CompType: Switcher; Published: 4-Dec-2008; DatasheetVersion: Feb-2009; PackageVersion: revA, Nov-2003; PackageReference: MUY08A; Publisher: Altium Limited; PackageDescription: Molded Mini-SO, Exposed Pad, .118 x .118 x .034in Body, 8 Lead, .0256in Pitch; Supplier 1: Farnell; Supplier Part Number 1: 1433149; RoHS: Y; PinCount: 8; Code_JEDEC: MO-187-AA; ComponentLink1Description: LM2735 Datasheet; ComponentLink1URL: http://www.national.com/ds/LM/LM2735.pdf; ComponentLink2Description: LM2735 Web Page; ComponentLink2URL: http://www.national.com/pf/LM/LM2735.html; ComponentLink3Description: MUY08A Package Page; ComponentLink3URL: http://www.national.com/packaging/folders/muy08a.html
footprint MUY08A_N (TSOP, 8-Leads, Body 3x3mm, Pitch 0.65mm, Exposed Pad, IPC Medium Density)
footprint MUY08A_L (TSOP, 8-Leads, Body 3x3mm, Pitch 0.65mm, Exposed Pad, IPC High Density)
footprint MUY08A_M (TSOP, 8-Leads, Body 3x3mm, Pitch 0.65mm, Exposed Pad, IPC Low Density)
pins: 1 NC, 2 PGND (power), 3 VIN (power), 4 EN (in), 5 FB (in), 6 AGND (power), 7 SW (power), 8 NC, 9 DAP (power)

## LM2735XMY/NOPB
designator U?
520kHz/1.6MHz - Space-Efficient Boost and SEPIC DC-DC Regulator, 8-pin eMSOP, Pb-Free; PartNumber: LM2735XMY/NOPB; Manufacturer: National Semiconductor; PackageTopMarking: ZXTT*SRJB; PowerWise: N; CompType: Switcher; Published: 1-Mar-2010; DatasheetVersion: Feb-2009; PackageVersion: revA, Nov-2003; PackageReference: MUY08A; Publisher: Altium Limited; PackageDescription: Molded Mini-SO, Exposed Pad, .118 x .118 x .034in Body, 8 Lead, .0256in Pitch; Supplier 1: Digi-Key; Supplier Part Number 1: LM2735XMYTR-ND; Supplier 2: Digi-Key; Supplier Part Number 2: LM2735XMYCT-ND; Supplier 3: Digi-Key; Supplier Part Number 3: LM2735XMYDKR-ND; RoHS: Y; PinCount: 8; Code_JEDEC: MO-187-AA; ComponentLink1Description: LM2735 Datasheet; ComponentLink1URL: http://www.national.com/ds/LM/LM2735.pdf; ComponentLink2Description: LM2735 Web Page; ComponentLink2URL: http://www.national.com/pf/LM/LM2735.html; ComponentLink3Description: MUY08A Package Page; ComponentLink3URL: http://www.national.com/packaging/folders/muy08a.html
footprint MUY08A_N (TSOP, 8-Leads, Body 3x3mm, Pitch 0.65mm, Exposed Pad, IPC Medium Density)
footprint MUY08A_L (TSOP, 8-Leads, Body 3x3mm, Pitch 0.65mm, Exposed Pad, IPC High Density)
footprint MUY08A_M (TSOP, 8-Leads, Body 3x3mm, Pitch 0.65mm, Exposed Pad, IPC Low Density)
pins: 1 NC, 2 PGND (power), 3 VIN (power), 4 EN (in), 5 FB (in), 6 AGND (power), 7 SW (power), 8 NC, 9 DAP (power)

## LM2735XMYX/NOPB
designator U?
520kHz/1.6MHz - Space-Efficient Boost and SEPIC DC-DC Regulator, 8-pin eMSOP, Pb-Free; PartNumber: LM2735XMYX/NOPB; Manufacturer: National Semiconductor; PackageTopMarking: ZXTT*SRJB; PowerWise: N; CompType: Switcher; Published: 1-Mar-2010; DatasheetVersion: Feb-2009; PackageVersion: revA, Nov-2003; PackageReference: MUY08A; Publisher: Altium Limited; PackageDescription: Molded Mini-SO, Exposed Pad, .118 x .118 x .034in Body, 8 Lead, .0256in Pitch; Supplier 1: Digi-Key; Supplier Part Number 1: LM2735XMYX-ND; RoHS: Y; PinCount: 8; Code_JEDEC: MO-187-AA; ComponentLink1Description: LM2735 Datasheet; ComponentLink1URL: http://www.national.com/ds/LM/LM2735.pdf; ComponentLink2Description: LM2735 Web Page; ComponentLink2URL: http://www.national.com/pf/LM/LM2735.html; ComponentLink3Description: MUY08A Package Page; ComponentLink3URL: http://www.national.com/packaging/folders/muy08a.html
footprint MUY08A_N (TSOP, 8-Leads, Body 3x3mm, Pitch 0.65mm, Exposed Pad, IPC Medium Density)
footprint MUY08A_L (TSOP, 8-Leads, Body 3x3mm, Pitch 0.65mm, Exposed Pad, IPC High Density)
footprint MUY08A_M (TSOP, 8-Leads, Body 3x3mm, Pitch 0.65mm, Exposed Pad, IPC Low Density)
pins: 1 NC, 2 PGND (power), 3 VIN (power), 4 EN (in), 5 FB (in), 6 AGND (power), 7 SW (power), 8 NC, 9 DAP (power)

## LM2735XSD
designator U?
520kHz/1.6MHz - Space-Efficient Boost and SEPIC DC-DC Regulator, 6-pin LLP; PartNumber: LM2735XSD; Manufacturer: National Semiconductor; PackageTopMarking: ZXYTT*2735X; PowerWise: N; CompType: Switcher; Published: 4-Dec-2008; DatasheetVersion: Feb-2009; PackageVersion: revA, Jul-2003; PackageReference: SDE06A; Publisher: Altium Limited; PackageDescription: LLP, Plastic, Dual, 3 x 3 x 0.8mm Body, 6 Lead, 0.95mm Pitch, No Pullback; RoHS: Y; PinCount: 6; ComponentLink1Description: LM2735 Datasheet; ComponentLink1URL: http://www.national.com/ds/LM/LM2735.pdf; ComponentLink2Description: LM2735 Web Page; ComponentLink2URL: http://www.national.com/pf/LM/LM2735.html; ComponentLink3Description: SDE06A Package Page; ComponentLink3URL: http://www.national.com/packaging/folders/sde06a.html
footprint SDE06A_full (SON, 6-Leads, Body 3x3 mm, Pitch 0.95mm, Full Paste, NSC Recommended)
footprint SDE06A_quad (SON, 6-Leads, Body 3x3 mm, Pitch 0.95mm, Quad Paste, NSC Recommended)
pins: 1 PGND (power), 2 VIN (power), 3 EN (in), 4 FB (in), 5 AGND (power), 6 SW (power), 7 DAP (power)

## LM2735XSD/NOPB
designator U?
520kHz/1.6MHz - Space-Efficient Boost and SEPIC DC-DC Regulator, 6-pin LLP, Pb-Free; PartNumber: LM2735XSD/NOPB; Manufacturer: National Semiconductor; PackageTopMarking: ZXYTT*2735X; PowerWise: N; CompType: Switcher; Published: 1-Mar-2010; DatasheetVersion: Feb-2009; PackageVersion: revA, Jul-2003; PackageReference: SDE06A; Publisher: Altium Limited; PackageDescription: LLP, Plastic, Dual, 3 x 3 x 0.8mm Body, 6 Lead, 0.95mm Pitch, No Pullback; Supplier 1: Digi-Key; Supplier Part Number 1: LM2735XSDTR-ND; Supplier 2: Digi-Key; Supplier Part Number 2: LM2735XSDCT-ND; Supplier 3: Digi-Key; Supplier Part Number 3: LM2735XSDDKR-ND; Supplier 4: Farnell; Supplier Part Number 4: 1426508; RoHS: Y; PinCount: 6; ComponentLink1Description: LM2735 Datasheet; ComponentLink1URL: http://www.national.com/ds/LM/LM2735.pdf; ComponentLink2Description: LM2735 Web Page; ComponentLink2URL: http://www.national.com/pf/LM/LM2735.html; ComponentLink3Description: SDE06A Package Page; ComponentLink3URL: http://www.national.com/packaging/folders/sde06a.html
footprint SDE06A_full (SON, 6-Leads, Body 3x3 mm, Pitch 0.95mm, Full Paste, NSC Recommended)
footprint SDE06A_quad (SON, 6-Leads, Body 3x3 mm, Pitch 0.95mm, Quad Paste, NSC Recommended)
pins: 1 PGND (power), 2 VIN (power), 3 EN (in), 4 FB (in), 5 AGND (power), 6 SW (power), 7 DAP (power)

## LM2735XSDX/NOPB
designator U?
520kHz/1.6MHz - Space-Efficient Boost and SEPIC DC-DC Regulator, 6-pin LLP, Pb-Free; PartNumber: LM2735XSDX/NOPB; Manufacturer: National Semiconductor; PackageTopMarking: ZXYTT*2735X; PowerWise: N; CompType: Switcher; Published: 1-Mar-2010; DatasheetVersion: Feb-2009; PackageVersion: revA, Jul-2003; PackageReference: SDE06A; Publisher: Altium Limited; PackageDescription: LLP, Plastic, Dual, 3 x 3 x 0.8mm Body, 6 Lead, 0.95mm Pitch, No Pullback; Supplier 1: Digi-Key; Supplier Part Number 1: LM2735XSDX-ND; RoHS: Y; PinCount: 6; ComponentLink1Description: LM2735 Datasheet; ComponentLink1URL: http://www.national.com/ds/LM/LM2735.pdf; ComponentLink2Description: LM2735 Web Page; ComponentLink2URL: http://www.national.com/pf/LM/LM2735.html; ComponentLink3Description: SDE06A Package Page; ComponentLink3URL: http://www.national.com/packaging/folders/sde06a.html
footprint SDE06A_full (SON, 6-Leads, Body 3x3 mm, Pitch 0.95mm, Full Paste, NSC Recommended)
footprint SDE06A_quad (SON, 6-Leads, Body 3x3 mm, Pitch 0.95mm, Quad Paste, NSC Recommended)
pins: 1 PGND (power), 2 VIN (power), 3 EN (in), 4 FB (in), 5 AGND (power), 6 SW (power), 7 DAP (power)

## LM2735YMF
designator U?
520kHz/1.6MHz - Space-Efficient Boost and SEPIC DC-DC Regulator, 5-pin SOT-23; PartNumber: LM2735YMF; Manufacturer: National Semiconductor; PackageTopMarking: SLFB*XTT; PowerWise: N; CompType: Switcher; Published: 4-Dec-2008; DatasheetVersion: Feb-2009; PackageVersion: revD, Aug-2008; PackageReference: MF05A; Publisher: Altium Limited; PackageDescription: Molded SOT-23, .115 x .063 x .040 in Body, 5 Lead, .0375 in Pitch; Supplier 1: Farnell; Supplier Part Number 1: 1433150; RoHS: Y; PinCount: 5; ComponentLink1Description: LM2735 Datasheet; ComponentLink1URL: http://www.national.com/ds/LM/LM2735.pdf; ComponentLink2Description: LM2735 Web Page; ComponentLink2URL: http://www.national.com/pf/LM/LM2735.html; ComponentLink3Description: MF05A Package Page; ComponentLink3URL: http://www.national.com/packaging/folders/mf05a.html
footprint MF05A_N (SOT23, 5-Leads, Body 2.9x1.6mm, Pitch 0.95mm, Lead Span 2.8mm, IPC Medium Density)
footprint MF05A_L (SOT23, 5-Leads, Body 2.9x1.6mm, Pitch 0.95mm, Lead Span 2.8mm, IPC High Density)
footprint MF05A_M (SOT23, 5-Leads, Body 2.9x1.6mm, Pitch 0.95mm, Lead Span 2.8mm, IPC Low Density)
pins: 1 SW (power), 2 GND (power), 3 FB (in), 4 EN (in), 5 VIN (power)

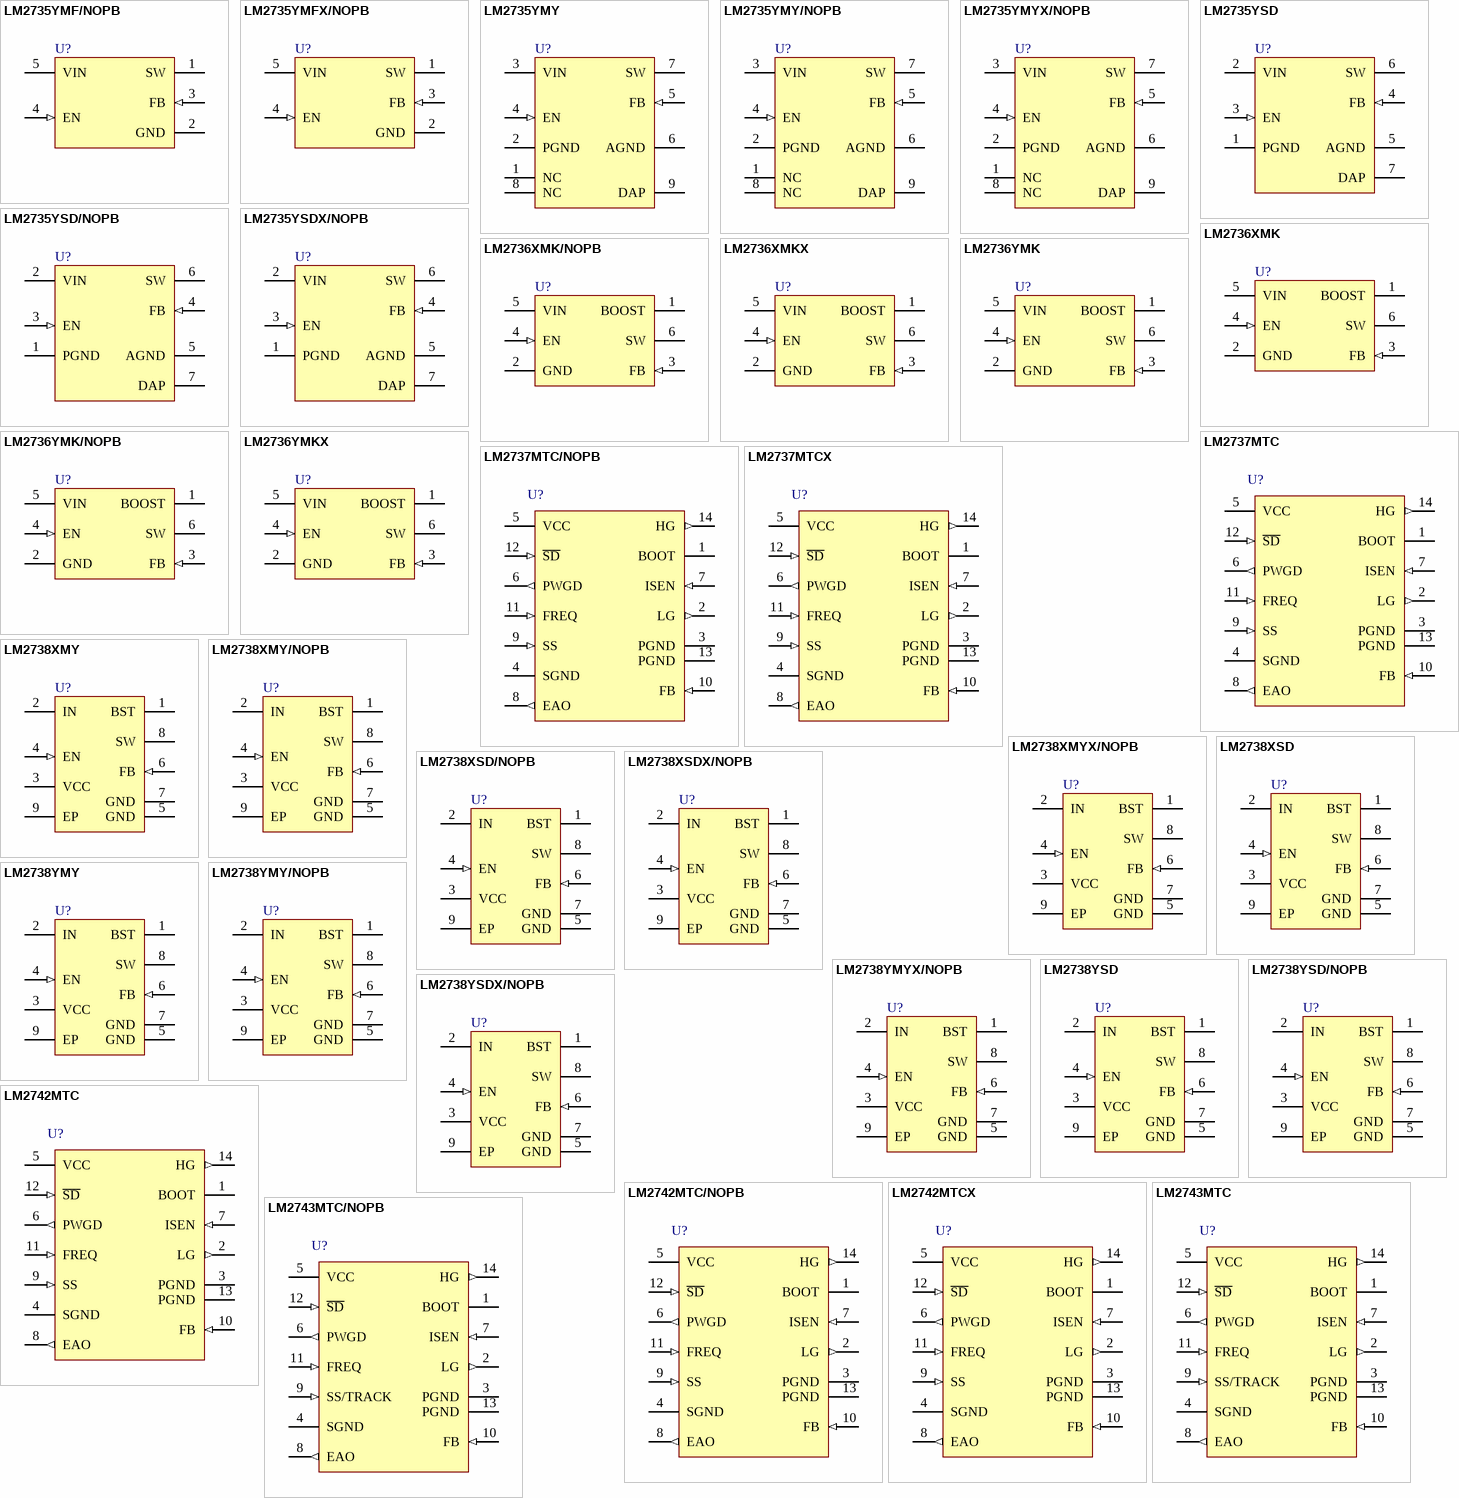
[diagram p25: symbols LM2735YMF/NOPB to LM2743MTC/NOPB]

## LM2735YMF/NOPB
designator U?
520kHz/1.6MHz - Space-Efficient Boost and SEPIC DC-DC Regulator, 5-pin SOT-23, Pb-Free; PartNumber: LM2735YMF/NOPB; Manufacturer: National Semiconductor; PackageTopMarking: SLFB*XTT; PowerWise: N; CompType: Switcher; Published: 1-Mar-2010; DatasheetVersion: Feb-2009; PackageVersion: revD, Aug-2008; PackageReference: MF05A; Publisher: Altium Limited; PackageDescription: Molded SOT-23, .115 x .063 x .040 in Body, 5 Lead, .0375 in Pitch; Supplier 1: Digi-Key; Supplier Part Number 1: LM2735YMFTR-ND; Supplier 2: Digi-Key; Supplier Part Number 2: LM2735YMFCT-ND; Supplier 3: Digi-Key; Supplier Part Number 3: LM2735YMFDKR-ND; Supplier 4: Farnell; Supplier Part Number 4: 1426509; RoHS: Y; PinCount: 5; ComponentLink1Description: LM2735 Datasheet; ComponentLink1URL: http://www.national.com/ds/LM/LM2735.pdf; ComponentLink2Description: LM2735 Web Page; ComponentLink2URL: http://www.national.com/pf/LM/LM2735.html; ComponentLink3Description: MF05A Package Page; ComponentLink3URL: http://www.national.com/packaging/folders/mf05a.html
footprint MF05A_N (SOT23, 5-Leads, Body 2.9x1.6mm, Pitch 0.95mm, Lead Span 2.8mm, IPC Medium Density)
footprint MF05A_L (SOT23, 5-Leads, Body 2.9x1.6mm, Pitch 0.95mm, Lead Span 2.8mm, IPC High Density)
footprint MF05A_M (SOT23, 5-Leads, Body 2.9x1.6mm, Pitch 0.95mm, Lead Span 2.8mm, IPC Low Density)
pins: 1 SW (power), 2 GND (power), 3 FB (in), 4 EN (in), 5 VIN (power)

## LM2735YMFX/NOPB
designator U?
520kHz/1.6MHz - Space-Efficient Boost and SEPIC DC-DC Regulator, 5-pin SOT-23, Pb-Free; PartNumber: LM2735YMFX/NOPB; Manufacturer: National Semiconductor; PackageTopMarking: SLFB*XTT; PowerWise: N; CompType: Switcher; Published: 1-Mar-2010; DatasheetVersion: Feb-2009; PackageVersion: revD, Aug-2008; PackageReference: MF05A; Publisher: Altium Limited; PackageDescription: Molded SOT-23, .115 x .063 x .040 in Body, 5 Lead, .0375 in Pitch; Supplier 1: Digi-Key; Supplier Part Number 1: LM2735YMFX-ND; RoHS: Y; PinCount: 5; ComponentLink1Description: LM2735 Datasheet; ComponentLink1URL: http://www.national.com/ds/LM/LM2735.pdf; ComponentLink2Description: LM2735 Web Page; ComponentLink2URL: http://www.national.com/pf/LM/LM2735.html; ComponentLink3Description: MF05A Package Page; ComponentLink3URL: http://www.national.com/packaging/folders/mf05a.html
footprint MF05A_N (SOT23, 5-Leads, Body 2.9x1.6mm, Pitch 0.95mm, Lead Span 2.8mm, IPC Medium Density)
footprint MF05A_L (SOT23, 5-Leads, Body 2.9x1.6mm, Pitch 0.95mm, Lead Span 2.8mm, IPC High Density)
footprint MF05A_M (SOT23, 5-Leads, Body 2.9x1.6mm, Pitch 0.95mm, Lead Span 2.8mm, IPC Low Density)
pins: 1 SW (power), 2 GND (power), 3 FB (in), 4 EN (in), 5 VIN (power)